# Altium integrated library IR Discrete SCR.IntLib: 273 symbols (part 3 of 3)
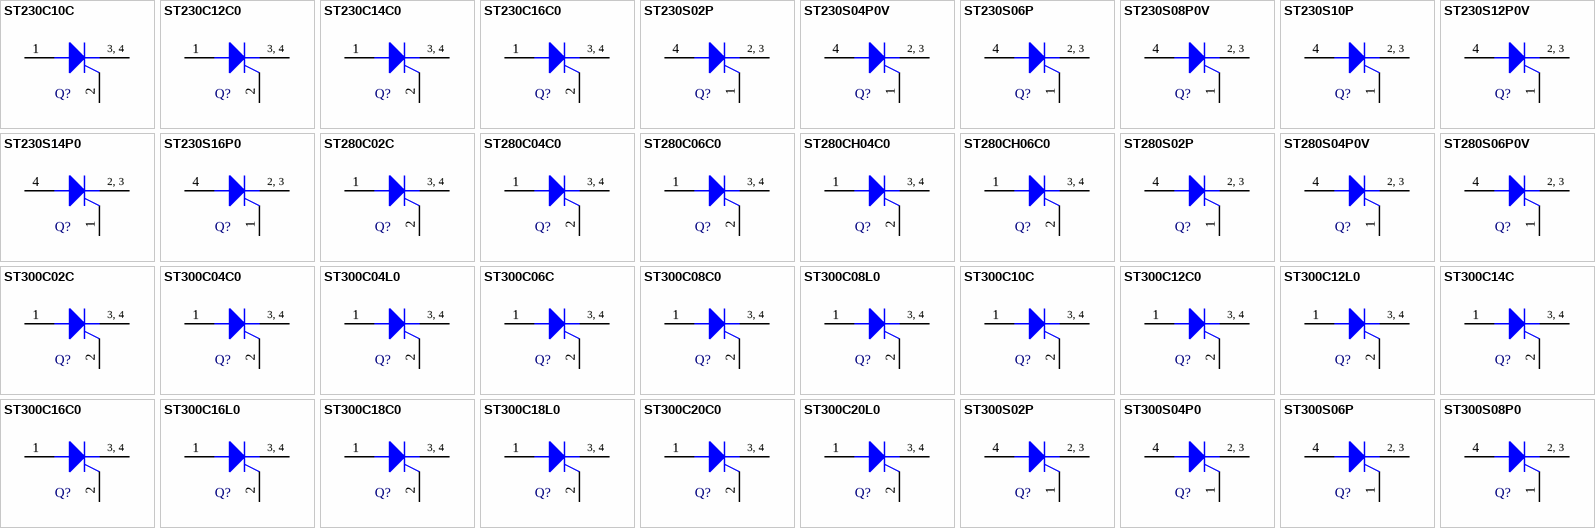
[diagram p8: symbols ST230C10C to ST300S08P0]

## ST300C12L0
designator Q?
Phase Control Thyristor; Note: No PCB Footprint Available; Published: 8-Jun-2000; LatestRevisionDate: 17-Jul-2002; LatestRevisionNote: Re-released for DXP Platform.; DatasheetVersion: Feb-1994; PackageReference: TO-200AC; Publisher: Altium Limited; ComponentLink1Description: Manufacturer Link; ComponentLink1URL: http://www.irf.com/; ComponentLink2Description: Datasheet; ComponentLink2URL: http://www.irf.com/product-info/datasheets/data/st300c-l.pdf
simulation model ST300C12L0 (SUBCKT)
pins: 1 A, 2 G, 3 K, 4 K
text: 3, 4

## ST300C14C
designator Q?
Phase Control Thyristor; Note: No PCB Footprint Available; Published: 8-Jun-2000; LatestRevisionDate: 17-Jul-2002; LatestRevisionNote: Re-released for DXP Platform.; DatasheetVersion: Dec-1989; PackageReference: TO-200AB; Publisher: Altium Limited; ComponentLink1Description: Manufacturer Link; ComponentLink1URL: http://www.irf.com/
simulation model ST300C14C (SUBCKT)
pins: 1 A, 2 G, 3 K, 4 K
text: 3, 4

## ST300C16C0
designator Q?
Phase Control Thyristor; Note: No PCB Footprint Available; Published: 8-Jun-2000; LatestRevisionDate: 17-Jul-2002; LatestRevisionNote: Re-released for DXP Platform.; DatasheetVersion: Feb-1994; PackageReference: TO-200AB; Publisher: Altium Limited; ComponentLink1Description: Manufacturer Link; ComponentLink1URL: http://www.irf.com/; ComponentLink2Description: Datasheet; ComponentLink2URL: http://www.irf.com/product-info/datasheets/data/st300c-c.pdf
simulation model ST300C16C0 (SUBCKT)
pins: 1 A, 2 G, 3 K, 4 K
text: 3, 4

## ST300C16L0
designator Q?
Phase Control Thyristor; Note: No PCB Footprint Available; Published: 8-Jun-2000; LatestRevisionDate: 17-Jul-2002; LatestRevisionNote: Re-released for DXP Platform.; DatasheetVersion: Feb-1994; PackageReference: TO-200AC; Publisher: Altium Limited; ComponentLink1Description: Manufacturer Link; ComponentLink1URL: http://www.irf.com/; ComponentLink2Description: Datasheet; ComponentLink2URL: http://www.irf.com/product-info/datasheets/data/st300c-l.pdf
simulation model ST300C16L0 (SUBCKT)
pins: 1 A, 2 G, 3 K, 4 K
text: 3, 4

## ST300C18C0
designator Q?
Phase Control Thyristor; Note: No PCB Footprint Available; Published: 8-Jun-2000; LatestRevisionDate: 17-Jul-2002; LatestRevisionNote: Re-released for DXP Platform.; DatasheetVersion: Feb-1994; PackageReference: TO-200AB; Publisher: Altium Limited; ComponentLink1Description: Manufacturer Link; ComponentLink1URL: http://www.irf.com/; ComponentLink2Description: Datasheet; ComponentLink2URL: http://www.irf.com/product-info/datasheets/data/st300c-c.pdf
simulation model ST300C18C0 (SUBCKT)
pins: 1 A, 2 G, 3 K, 4 K
text: 3, 4

## ST300C18L0
designator Q?
Phase Control Thyristor; Note: No PCB Footprint Available; Published: 8-Jun-2000; LatestRevisionDate: 17-Jul-2002; LatestRevisionNote: Re-released for DXP Platform.; DatasheetVersion: Feb-1994; PackageReference: TO-200AC; Publisher: Altium Limited; ComponentLink1Description: Manufacturer Link; ComponentLink1URL: http://www.irf.com/; ComponentLink2Description: Datasheet; ComponentLink2URL: http://www.irf.com/product-info/datasheets/data/st300c-l.pdf
simulation model ST300C18L0 (SUBCKT)
pins: 1 A, 2 G, 3 K, 4 K
text: 3, 4

## ST300C20C0
designator Q?
Phase Control Thyristor; Note: No PCB Footprint Available; Published: 8-Jun-2000; LatestRevisionDate: 17-Jul-2002; LatestRevisionNote: Re-released for DXP Platform.; DatasheetVersion: Feb-1994; PackageReference: TO-200AB; Publisher: Altium Limited; ComponentLink1Description: Manufacturer Link; ComponentLink1URL: http://www.irf.com/; ComponentLink2Description: Datasheet; ComponentLink2URL: http://www.irf.com/product-info/datasheets/data/st300c-c.pdf
simulation model ST300C20C0 (SUBCKT)
pins: 1 A, 2 G, 3 K, 4 K
text: 3, 4

## ST300C20L0
designator Q?
Phase Control Thyristor; Note: No PCB Footprint Available; Published: 8-Jun-2000; LatestRevisionDate: 17-Jul-2002; LatestRevisionNote: Re-released for DXP Platform.; DatasheetVersion: Feb-1994; PackageReference: TO-200AC; Publisher: Altium Limited; ComponentLink1Description: Manufacturer Link; ComponentLink1URL: http://www.irf.com/; ComponentLink2Description: Datasheet; ComponentLink2URL: http://www.irf.com/product-info/datasheets/data/st300c-l.pdf
simulation model ST300C20L0 (SUBCKT)
pins: 1 A, 2 G, 3 K, 4 K
text: 3, 4

## ST300S02P
designator Q?
Phase Control Thyristor; Note: No PCB Footprint Available; Published: 8-Jun-2000; LatestRevisionDate: 17-Jul-2002; LatestRevisionNote: Re-released for DXP Platform.; DatasheetVersion: Dec-1989; PackageReference: TO-209AE; Publisher: Altium Limited; ComponentLink1Description: Manufacturer Link; ComponentLink1URL: http://www.irf.com/
simulation model ST300S02P (SUBCKT)
pins: 1 G, 2 K, 3 K, 4 A
text: 2, 3

## ST300S04P0
designator Q?
Phase Control Thyristor; Note: No PCB Footprint Available; Published: 8-Jun-2000; LatestRevisionDate: 17-Jul-2002; LatestRevisionNote: Re-released for DXP Platform.; DatasheetVersion: Jan-1994; PackageReference: TO-209AE; Publisher: Altium Limited; ComponentLink1Description: Manufacturer Link; ComponentLink1URL: http://www.irf.com/; ComponentLink2Description: Datasheet; ComponentLink2URL: http://www.irf.com/product-info/datasheets/data/st300s.pdf
simulation model ST300S04P0 (SUBCKT)
pins: 1 G, 2 K, 3 K, 4 A
text: 2, 3

## ST300S06P
designator Q?
Phase Control Thyristor; Note: No PCB Footprint Available; Published: 8-Jun-2000; LatestRevisionDate: 17-Jul-2002; LatestRevisionNote: Re-released for DXP Platform.; DatasheetVersion: Dec-1989; PackageReference: TO-209AE; Publisher: Altium Limited; ComponentLink1Description: Manufacturer Link; ComponentLink1URL: http://www.irf.com/
simulation model ST300S06P (SUBCKT)
pins: 1 G, 2 K, 3 K, 4 A
text: 2, 3

## ST300S08P0
designator Q?
Phase Control Thyristor; Note: No PCB Footprint Available; Published: 8-Jun-2000; LatestRevisionDate: 17-Jul-2002; LatestRevisionNote: Re-released for DXP Platform.; DatasheetVersion: Jan-1994; PackageReference: TO-209AE; Publisher: Altium Limited; ComponentLink1Description: Manufacturer Link; ComponentLink1URL: http://www.irf.com/; ComponentLink2Description: Datasheet; ComponentLink2URL: http://www.irf.com/product-info/datasheets/data/st300s.pdf
simulation model ST300S08P0 (SUBCKT)
pins: 1 G, 2 K, 3 K, 4 A
text: 2, 3

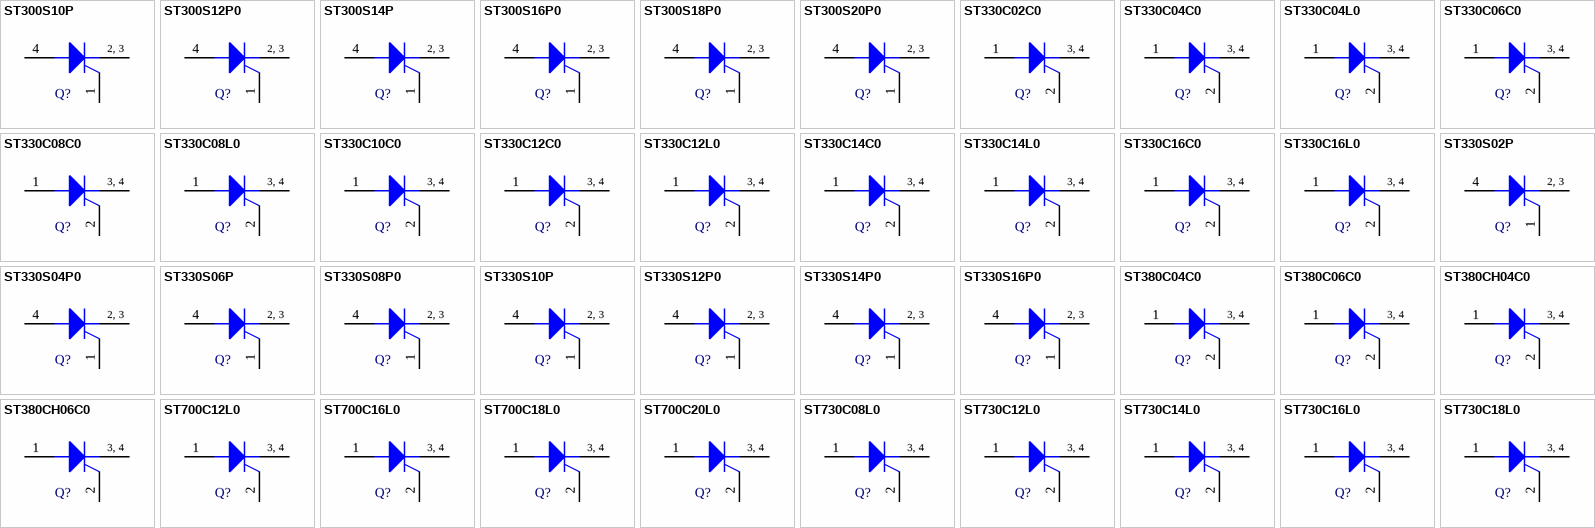
[diagram p5: symbols ST300S10P to ST730C18L0]

## ST300S10P
designator Q?
Phase Control Thyristor; Note: No PCB Footprint Available; Published: 8-Jun-2000; LatestRevisionDate: 17-Jul-2002; LatestRevisionNote: Re-released for DXP Platform.; DatasheetVersion: Dec-1989; PackageReference: TO-209AE; Publisher: Altium Limited; ComponentLink1Description: Manufacturer Link; ComponentLink1URL: http://www.irf.com/
simulation model ST300S10P (SUBCKT)
pins: 1 G, 2 K, 3 K, 4 A
text: 2, 3

## ST300S12P0
designator Q?
Phase Control Thyristor; Note: No PCB Footprint Available; Published: 8-Jun-2000; LatestRevisionDate: 17-Jul-2002; LatestRevisionNote: Re-released for DXP Platform.; DatasheetVersion: Jan-1994; PackageReference: TO-209AE; Publisher: Altium Limited; ComponentLink1Description: Manufacturer Link; ComponentLink1URL: http://www.irf.com/; ComponentLink2Description: Datasheet; ComponentLink2URL: http://www.irf.com/product-info/datasheets/data/st300s.pdf
simulation model ST300S12P0 (SUBCKT)
pins: 1 G, 2 K, 3 K, 4 A
text: 2, 3

## ST300S14P
designator Q?
Phase Control Thyristor; Note: No PCB Footprint Available; Published: 8-Jun-2000; LatestRevisionDate: 17-Jul-2002; LatestRevisionNote: Re-released for DXP Platform.; DatasheetVersion: Dec-1989; PackageReference: TO-209AE; Publisher: Altium Limited; ComponentLink1Description: Manufacturer Link; ComponentLink1URL: http://www.irf.com/
simulation model ST300S14P (SUBCKT)
pins: 1 G, 2 K, 3 K, 4 A
text: 2, 3

## ST300S16P0
designator Q?
Phase Control Thyristor; Note: No PCB Footprint Available; Published: 8-Jun-2000; LatestRevisionDate: 17-Jul-2002; LatestRevisionNote: Re-released for DXP Platform.; DatasheetVersion: Jan-1994; PackageReference: TO-209AE; Publisher: Altium Limited; ComponentLink1Description: Manufacturer Link; ComponentLink1URL: http://www.irf.com/; ComponentLink2Description: Datasheet; ComponentLink2URL: http://www.irf.com/product-info/datasheets/data/st300s.pdf
simulation model ST300S16P0 (SUBCKT)
pins: 1 G, 2 K, 3 K, 4 A
text: 2, 3

## ST300S18P0
designator Q?
Phase Control Thyristor; Note: No PCB Footprint Available; Published: 8-Jun-2000; LatestRevisionDate: 17-Jul-2002; LatestRevisionNote: Re-released for DXP Platform.; DatasheetVersion: Jan-1994; PackageReference: TO-209AE; Publisher: Altium Limited; ComponentLink1Description: Manufacturer Link; ComponentLink1URL: http://www.irf.com/; ComponentLink2Description: Datasheet; ComponentLink2URL: http://www.irf.com/product-info/datasheets/data/st300s.pdf
simulation model ST300S18P0 (SUBCKT)
pins: 1 G, 2 K, 3 K, 4 A
text: 2, 3

## ST300S20P0
designator Q?
Phase Control Thyristor; Note: No PCB Footprint Available; Published: 8-Jun-2000; LatestRevisionDate: 17-Jul-2002; LatestRevisionNote: Re-released for DXP Platform.; DatasheetVersion: Jan-1994; PackageReference: TO-209AE; Publisher: Altium Limited; ComponentLink1Description: Manufacturer Link; ComponentLink1URL: http://www.irf.com/; ComponentLink2Description: Datasheet; ComponentLink2URL: http://www.irf.com/product-info/datasheets/data/st300s.pdf
simulation model ST300S20P0 (SUBCKT)
pins: 1 G, 2 K, 3 K, 4 A
text: 2, 3

## ST330C02C0
designator Q?
Phase Control Thyristor; Note: No PCB Footprint Available; Published: 8-Jun-2000; LatestRevisionDate: 17-Jul-2002; LatestRevisionNote: Re-released for DXP Platform.; DatasheetVersion: Dec-1989; PackageReference: TO-200AB; Publisher: Altium Limited; ComponentLink1Description: Manufacturer Link; ComponentLink1URL: http://www.irf.com/
simulation model ST330C02C0 (SUBCKT)
pins: 1 A, 2 G, 3 K, 4 K
text: 3, 4

## ST330C04C0
designator Q?
Phase Control Thyristor; Note: No PCB Footprint Available; Published: 8-Jun-2000; LatestRevisionDate: 17-Jul-2002; LatestRevisionNote: Re-released for DXP Platform.; DatasheetVersion: Feb-1994; PackageReference: TO-200AB; Publisher: Altium Limited; ComponentLink1Description: Manufacturer Link; ComponentLink1URL: http://www.irf.com/; ComponentLink2Description: Datasheet; ComponentLink2URL: http://www.irf.com/product-info/datasheets/data/st330c-c.pdf
simulation model ST330C04C0 (SUBCKT)
pins: 1 A, 2 G, 3 K, 4 K
text: 3, 4

## ST330C04L0
designator Q?
Phase Control Thyristor; Note: No PCB Footprint Available; Published: 8-Jun-2000; LatestRevisionDate: 17-Jul-2002; LatestRevisionNote: Re-released for DXP Platform.; DatasheetVersion: Feb-1994; PackageReference: TO-200AC; Publisher: Altium Limited; ComponentLink1Description: Manufacturer Link; ComponentLink1URL: http://www.irf.com/; ComponentLink2Description: Datasheet; ComponentLink2URL: http://www.irf.com/product-info/datasheets/data/st330c-l.pdf
simulation model ST330C04L0 (SUBCKT)
pins: 1 A, 2 G, 3 K, 4 K
text: 3, 4

## ST330C06C0
designator Q?
Phase Control Thyristor; Note: No PCB Footprint Available; Published: 8-Jun-2000; LatestRevisionDate: 17-Jul-2002; LatestRevisionNote: Re-released for DXP Platform.; DatasheetVersion: Dec-1989; PackageReference: TO-200AB; Publisher: Altium Limited; ComponentLink1Description: Manufacturer Link; ComponentLink1URL: http://www.irf.com/
simulation model ST330C06C0 (SUBCKT)
pins: 1 A, 2 G, 3 K, 4 K
text: 3, 4

## ST330C08C0
designator Q?
Phase Control Thyristor; Note: No PCB Footprint Available; Published: 8-Jun-2000; LatestRevisionDate: 17-Jul-2002; LatestRevisionNote: Re-released for DXP Platform.; DatasheetVersion: Feb-1994; PackageReference: TO-200AB; Publisher: Altium Limited; ComponentLink1Description: Manufacturer Link; ComponentLink1URL: http://www.irf.com/; ComponentLink2Description: Datasheet; ComponentLink2URL: http://www.irf.com/product-info/datasheets/data/st330c-c.pdf
simulation model ST330C08C0 (SUBCKT)
pins: 1 A, 2 G, 3 K, 4 K
text: 3, 4

## ST330C08L0
designator Q?
Phase Control Thyristor; Note: No PCB Footprint Available; Published: 8-Jun-2000; LatestRevisionDate: 17-Jul-2002; LatestRevisionNote: Re-released for DXP Platform.; DatasheetVersion: Feb-1994; PackageReference: TO-200AC; Publisher: Altium Limited; ComponentLink1Description: Manufacturer Link; ComponentLink1URL: http://www.irf.com/; ComponentLink2Description: Datasheet; ComponentLink2URL: http://www.irf.com/product-info/datasheets/data/st330c-l.pdf
simulation model ST330C08L0 (SUBCKT)
pins: 1 A, 2 G, 3 K, 4 K
text: 3, 4

## ST330C10C0
designator Q?
Phase Control Thyristor; Note: No PCB Footprint Available; Published: 8-Jun-2000; LatestRevisionDate: 17-Jul-2002; LatestRevisionNote: Re-released for DXP Platform.; DatasheetVersion: Dec-1989; PackageReference: TO-200AB; Publisher: Altium Limited; ComponentLink1Description: Manufacturer Link; ComponentLink1URL: http://www.irf.com/
simulation model ST330C10C0 (SUBCKT)
pins: 1 A, 2 G, 3 K, 4 K
text: 3, 4

## ST330C12C0
designator Q?
Phase Control Thyristor; Note: No PCB Footprint Available; Published: 8-Jun-2000; LatestRevisionDate: 17-Jul-2002; LatestRevisionNote: Re-released for DXP Platform.; DatasheetVersion: Feb-1994; PackageReference: TO-200AB; Publisher: Altium Limited; ComponentLink1Description: Manufacturer Link; ComponentLink1URL: http://www.irf.com/; ComponentLink2Description: Datasheet; ComponentLink2URL: http://www.irf.com/product-info/datasheets/data/st330c-c.pdf
simulation model ST330C12C0 (SUBCKT)
pins: 1 A, 2 G, 3 K, 4 K
text: 3, 4

## ST330C12L0
designator Q?
Phase Control Thyristor; Note: No PCB Footprint Available; Published: 8-Jun-2000; LatestRevisionDate: 17-Jul-2002; LatestRevisionNote: Re-released for DXP Platform.; DatasheetVersion: Feb-1994; PackageReference: TO-200AC; Publisher: Altium Limited; ComponentLink1Description: Manufacturer Link; ComponentLink1URL: http://www.irf.com/; ComponentLink2Description: Datasheet; ComponentLink2URL: http://www.irf.com/product-info/datasheets/data/st330c-l.pdf
simulation model ST330C12L0 (SUBCKT)
pins: 1 A, 2 G, 3 K, 4 K
text: 3, 4

## ST330C14C0
designator Q?
Phase Control Thyristor; Note: No PCB Footprint Available; Published: 8-Jun-2000; LatestRevisionDate: 17-Jul-2002; LatestRevisionNote: Re-released for DXP Platform.; DatasheetVersion: Feb-1994; PackageReference: TO-200AB; Publisher: Altium Limited; ComponentLink1Description: Manufacturer Link; ComponentLink1URL: http://www.irf.com/; ComponentLink2Description: Datasheet; ComponentLink2URL: http://www.irf.com/product-info/datasheets/data/st330c-c.pdf
simulation model ST330C14C0 (SUBCKT)
pins: 1 A, 2 G, 3 K, 4 K
text: 3, 4

## ST330C14L0
designator Q?
Phase Control Thyristor; Note: No PCB Footprint Available; Published: 8-Jun-2000; LatestRevisionDate: 17-Jul-2002; LatestRevisionNote: Re-released for DXP Platform.; DatasheetVersion: Feb-1994; PackageReference: TO-200AC; Publisher: Altium Limited; ComponentLink1Description: Manufacturer Link; ComponentLink1URL: http://www.irf.com/; ComponentLink2Description: Datasheet; ComponentLink2URL: http://www.irf.com/product-info/datasheets/data/st330c-l.pdf
simulation model ST330C14L0 (SUBCKT)
pins: 1 A, 2 G, 3 K, 4 K
text: 3, 4

## ST330C16C0
designator Q?
Phase Control Thyristor; Note: No PCB Footprint Available; Published: 8-Jun-2000; LatestRevisionDate: 17-Jul-2002; LatestRevisionNote: Re-released for DXP Platform.; DatasheetVersion: Feb-1994; PackageReference: TO-200AB; Publisher: Altium Limited; ComponentLink1Description: Manufacturer Link; ComponentLink1URL: http://www.irf.com/; ComponentLink2Description: Datasheet; ComponentLink2URL: http://www.irf.com/product-info/datasheets/data/st330c-c.pdf
simulation model ST330C16C0 (SUBCKT)
pins: 1 A, 2 G, 3 K, 4 K
text: 3, 4

## ST330C16L0
designator Q?
Phase Control Thyristor; Note: No PCB Footprint Available; Published: 8-Jun-2000; LatestRevisionDate: 17-Jul-2002; LatestRevisionNote: Re-released for DXP Platform.; DatasheetVersion: Feb-1994; PackageReference: TO-200AC; Publisher: Altium Limited; ComponentLink1Description: Manufacturer Link; ComponentLink1URL: http://www.irf.com/; ComponentLink2Description: Datasheet; ComponentLink2URL: http://www.irf.com/product-info/datasheets/data/st330c-l.pdf
simulation model ST330C16L0 (SUBCKT)
pins: 1 A, 2 G, 3 K, 4 K
text: 3, 4

## ST330S02P
designator Q?
Phase Control Thyristor; Note: No PCB Footprint Available; Published: 8-Jun-2000; LatestRevisionDate: 17-Jul-2002; LatestRevisionNote: Re-released for DXP Platform.; DatasheetVersion: Dec-1989; PackageReference: TO-209AE; Publisher: Altium Limited; ComponentLink1Description: Manufacturer Link; ComponentLink1URL: http://www.irf.com/
simulation model ST330S02P (SUBCKT)
pins: 1 G, 2 K, 3 K, 4 A
text: 2, 3

## ST330S04P0
designator Q?
Phase Control Thyristor; Note: No PCB Footprint Available; Published: 8-Jun-2000; LatestRevisionDate: 17-Jul-2002; LatestRevisionNote: Re-released for DXP Platform.; DatasheetVersion: Jan-1994; PackageReference: TO-209AE; Publisher: Altium Limited; ComponentLink1Description: Manufacturer Link; ComponentLink1URL: http://www.irf.com/; ComponentLink2Description: Datasheet; ComponentLink2URL: http://www.irf.com/product-info/datasheets/data/st330s.pdf
simulation model ST330S04P0 (SUBCKT)
pins: 1 G, 2 K, 3 K, 4 A
text: 2, 3

## ST330S06P
designator Q?
Phase Control Thyristor; Note: No PCB Footprint Available; Published: 8-Jun-2000; LatestRevisionDate: 17-Jul-2002; LatestRevisionNote: Re-released for DXP Platform.; DatasheetVersion: Dec-1989; PackageReference: TO-209AE; Publisher: Altium Limited; ComponentLink1Description: Manufacturer Link; ComponentLink1URL: http://www.irf.com/
simulation model ST330S06P (SUBCKT)
pins: 1 G, 2 K, 3 K, 4 A
text: 2, 3

## ST330S08P0
designator Q?
Phase Control Thyristor; Note: No PCB Footprint Available; Published: 8-Jun-2000; LatestRevisionDate: 17-Jul-2002; LatestRevisionNote: Re-released for DXP Platform.; DatasheetVersion: Jan-1994; PackageReference: TO-209AE; Publisher: Altium Limited; ComponentLink1Description: Manufacturer Link; ComponentLink1URL: http://www.irf.com/; ComponentLink2Description: Datasheet; ComponentLink2URL: http://www.irf.com/product-info/datasheets/data/st330s.pdf
simulation model ST330S08P0 (SUBCKT)
pins: 1 G, 2 K, 3 K, 4 A
text: 2, 3

## ST330S10P
designator Q?
Phase Control Thyristor; Note: No PCB Footprint Available; Published: 8-Jun-2000; LatestRevisionDate: 17-Jul-2002; LatestRevisionNote: Re-released for DXP Platform.; DatasheetVersion: Dec-1989; PackageReference: TO-209AE; Publisher: Altium Limited; ComponentLink1Description: Manufacturer Link; ComponentLink1URL: http://www.irf.com/
simulation model ST330S10P (SUBCKT)
pins: 1 G, 2 K, 3 K, 4 A
text: 2, 3

## ST330S12P0
designator Q?
Phase Control Thyristor; Note: No PCB Footprint Available; Published: 8-Jun-2000; LatestRevisionDate: 17-Jul-2002; LatestRevisionNote: Re-released for DXP Platform.; DatasheetVersion: Jan-1994; PackageReference: TO-209AE; Publisher: Altium Limited; ComponentLink1Description: Manufacturer Link; ComponentLink1URL: http://www.irf.com/; ComponentLink2Description: Datasheet; ComponentLink2URL: http://www.irf.com/product-info/datasheets/data/st330s.pdf
simulation model ST330S12P0 (SUBCKT)
pins: 1 G, 2 K, 3 K, 4 A
text: 2, 3

## ST330S14P0
designator Q?
Phase Control Thyristor; Note: No PCB Footprint Available; Published: 8-Jun-2000; LatestRevisionDate: 17-Jul-2002; LatestRevisionNote: Re-released for DXP Platform.; DatasheetVersion: Jan-1994; PackageReference: TO-209AE; Publisher: Altium Limited; ComponentLink1Description: Manufacturer Link; ComponentLink1URL: http://www.irf.com/; ComponentLink2Description: Datasheet; ComponentLink2URL: http://www.irf.com/product-info/datasheets/data/st330s.pdf
simulation model ST330S14P0 (SUBCKT)
pins: 1 G, 2 K, 3 K, 4 A
text: 2, 3

## ST330S16P0
designator Q?
Phase Control Thyristor; Note: No PCB Footprint Available; Published: 8-Jun-2000; LatestRevisionDate: 17-Jul-2002; LatestRevisionNote: Re-released for DXP Platform.; DatasheetVersion: Jan-1994; PackageReference: TO-209AE; Publisher: Altium Limited; ComponentLink1Description: Manufacturer Link; ComponentLink1URL: http://www.irf.com/; ComponentLink2Description: Datasheet; ComponentLink2URL: http://www.irf.com/product-info/datasheets/data/st330s.pdf
simulation model ST330S16P0 (SUBCKT)
pins: 1 G, 2 K, 3 K, 4 A
text: 2, 3

## ST380C04C0
designator Q?
Phase Control Thyristor; Note: No PCB Footprint Available; Published: 8-Jun-2000; LatestRevisionDate: 17-Jul-2002; LatestRevisionNote: Re-released for DXP Platform.; DatasheetVersion: Feb-1994; PackageReference: TO-200AB; Publisher: Altium Limited; ComponentLink1Description: Manufacturer Link; ComponentLink1URL: http://www.irf.com/; ComponentLink2Description: Datasheet; ComponentLink2URL: http://www.irf.com/product-info/datasheets/data/st380c-c.pdf
simulation model ST380C04C0 (SUBCKT)
pins: 1 A, 2 G, 3 K, 4 K
text: 3, 4

## ST380C06C0
designator Q?
Phase Control Thyristor; Note: No PCB Footprint Available; Published: 8-Jun-2000; LatestRevisionDate: 17-Jul-2002; LatestRevisionNote: Re-released for DXP Platform.; DatasheetVersion: Feb-1994; PackageReference: TO-200AB; Publisher: Altium Limited; ComponentLink1Description: Manufacturer Link; ComponentLink1URL: http://www.irf.com/; ComponentLink2Description: Datasheet; ComponentLink2URL: http://www.irf.com/product-info/datasheets/data/st380c-c.pdf
simulation model ST380C06C0 (SUBCKT)
pins: 1 A, 2 G, 3 K, 4 K
text: 3, 4

## ST380CH04C0
designator Q?
Phase Control Thyristor; Note: No PCB Footprint Available; Published: 8-Jun-2000; LatestRevisionDate: 17-Jul-2002; LatestRevisionNote: Re-released for DXP Platform.; DatasheetVersion: Feb-1994; PackageReference: TO-200AB; Publisher: Altium Limited; ComponentLink1Description: Manufacturer Link; ComponentLink1URL: http://www.irf.com/; ComponentLink2Description: Datasheet; ComponentLink2URL: http://www.irf.com/product-info/datasheets/data/st380ch-c.pdf
simulation model ST380CH04C0 (SUBCKT)
pins: 1 A, 2 G, 3 K, 4 K
text: 3, 4

## ST380CH06C0
designator Q?
Phase Control Thyristor; Note: No PCB Footprint Available; Published: 8-Jun-2000; LatestRevisionDate: 17-Jul-2002; LatestRevisionNote: Re-released for DXP Platform.; DatasheetVersion: Feb-1994; PackageReference: TO-200AB; Publisher: Altium Limited; ComponentLink1Description: Manufacturer Link; ComponentLink1URL: http://www.irf.com/; ComponentLink2Description: Datasheet; ComponentLink2URL: http://www.irf.com/product-info/datasheets/data/st380ch-c.pdf
simulation model ST380CH06C0 (SUBCKT)
pins: 1 A, 2 G, 3 K, 4 K
text: 3, 4

## ST700C12L0
designator Q?
Phase Control Thyristor; Note: No PCB Footprint Available; Published: 8-Jun-2000; LatestRevisionDate: 17-Jul-2002; LatestRevisionNote: Re-released for DXP Platform.; DatasheetVersion: Dec-1997; PackageReference: TO-200AC; Publisher: Altium Limited; ComponentLink1Description: Manufacturer Link; ComponentLink1URL: http://www.irf.com/; ComponentLink2Description: Datasheet; ComponentLink2URL: http://www.irf.com/product-info/datasheets/data/st700c-l.pdf
simulation model ST700C12L0 (SUBCKT)
pins: 1 A, 2 G, 3 K, 4 K
text: 3, 4

## ST700C16L0
designator Q?
Phase Control Thyristor; Note: No PCB Footprint Available; Published: 8-Jun-2000; LatestRevisionDate: 17-Jul-2002; LatestRevisionNote: Re-released for DXP Platform.; DatasheetVersion: Dec-1997; PackageReference: TO-200AC; Publisher: Altium Limited; ComponentLink1Description: Manufacturer Link; ComponentLink1URL: http://www.irf.com/; ComponentLink2Description: Datasheet; ComponentLink2URL: http://www.irf.com/product-info/datasheets/data/st700c-l.pdf
simulation model ST700C16L0 (SUBCKT)
pins: 1 A, 2 G, 3 K, 4 K
text: 3, 4

## ST700C18L0
designator Q?
Phase Control Thyristor; Note: No PCB Footprint Available; Published: 8-Jun-2000; LatestRevisionDate: 17-Jul-2002; LatestRevisionNote: Re-released for DXP Platform.; DatasheetVersion: Dec-1997; PackageReference: TO-200AC; Publisher: Altium Limited; ComponentLink1Description: Manufacturer Link; ComponentLink1URL: http://www.irf.com/; ComponentLink2Description: Datasheet; ComponentLink2URL: http://www.irf.com/product-info/datasheets/data/st700c-l.pdf
simulation model ST700C18L0 (SUBCKT)
pins: 1 A, 2 G, 3 K, 4 K
text: 3, 4

## ST700C20L0
designator Q?
Phase Control Thyristor; Note: No PCB Footprint Available; Published: 8-Jun-2000; LatestRevisionDate: 17-Jul-2002; LatestRevisionNote: Re-released for DXP Platform.; DatasheetVersion: Dec-1997; PackageReference: TO-200AC; Publisher: Altium Limited; ComponentLink1Description: Manufacturer Link; ComponentLink1URL: http://www.irf.com/; ComponentLink2Description: Datasheet; ComponentLink2URL: http://www.irf.com/product-info/datasheets/data/st700c-l.pdf
simulation model ST700C20L0 (SUBCKT)
pins: 1 A, 2 G, 3 K, 4 K
text: 3, 4

## ST730C08L0
designator Q?
Phase Control Thyristor; Note: No PCB Footprint Available; Published: 8-Jun-2000; LatestRevisionDate: 17-Jul-2002; LatestRevisionNote: Re-released for DXP Platform.; DatasheetVersion: Feb-1994; PackageReference: TO-200AC; Publisher: Altium Limited; ComponentLink1Description: Manufacturer Link; ComponentLink1URL: http://www.irf.com/; ComponentLink2Description: Datasheet; ComponentLink2URL: http://www.irf.com/product-info/datasheets/data/st730c-l.pdf
simulation model ST730C08L0 (SUBCKT)
pins: 1 A, 2 G, 3 K, 4 K
text: 3, 4

## ST730C12L0
designator Q?
Phase Control Thyristor; Note: No PCB Footprint Available; Published: 8-Jun-2000; LatestRevisionDate: 17-Jul-2002; LatestRevisionNote: Re-released for DXP Platform.; DatasheetVersion: Feb-1994; PackageReference: TO-200AC; Publisher: Altium Limited; ComponentLink1Description: Manufacturer Link; ComponentLink1URL: http://www.irf.com/; ComponentLink2Description: Datasheet; ComponentLink2URL: http://www.irf.com/product-info/datasheets/data/st730c-l.pdf
simulation model ST730C12L0 (SUBCKT)
pins: 1 A, 2 G, 3 K, 4 K
text: 3, 4

## ST730C14L0
designator Q?
Phase Control Thyristor; Note: No PCB Footprint Available; Published: 8-Jun-2000; LatestRevisionDate: 17-Jul-2002; LatestRevisionNote: Re-released for DXP Platform.; DatasheetVersion: Feb-1994; PackageReference: TO-200AC; Publisher: Altium Limited; ComponentLink1Description: Manufacturer Link; ComponentLink1URL: http://www.irf.com/; ComponentLink2Description: Datasheet; ComponentLink2URL: http://www.irf.com/product-info/datasheets/data/st730c-l.pdf
simulation model ST730C14L0 (SUBCKT)
pins: 1 A, 2 G, 3 K, 4 K
text: 3, 4

## ST730C16L0
designator Q?
Phase Control Thyristor; Note: No PCB Footprint Available; Published: 8-Jun-2000; LatestRevisionDate: 17-Jul-2002; LatestRevisionNote: Re-released for DXP Platform.; DatasheetVersion: Feb-1994; PackageReference: TO-200AC; Publisher: Altium Limited; ComponentLink1Description: Manufacturer Link; ComponentLink1URL: http://www.irf.com/; ComponentLink2Description: Datasheet; ComponentLink2URL: http://www.irf.com/product-info/datasheets/data/st730c-l.pdf
simulation model ST730C16L0 (SUBCKT)
pins: 1 A, 2 G, 3 K, 4 K
text: 3, 4

## ST730C18L0
designator Q?
Phase Control Thyristor; Note: No PCB Footprint Available; Published: 8-Jun-2000; LatestRevisionDate: 17-Jul-2002; LatestRevisionNote: Re-released for DXP Platform.; DatasheetVersion: Feb-1994; PackageReference: TO-200AC; Publisher: Altium Limited; ComponentLink1Description: Manufacturer Link; ComponentLink1URL: http://www.irf.com/; ComponentLink2Description: Datasheet; ComponentLink2URL: http://www.irf.com/product-info/datasheets/data/st730c-l.pdf
simulation model ST730C18L0 (SUBCKT)
pins: 1 A, 2 G, 3 K, 4 K
text: 3, 4

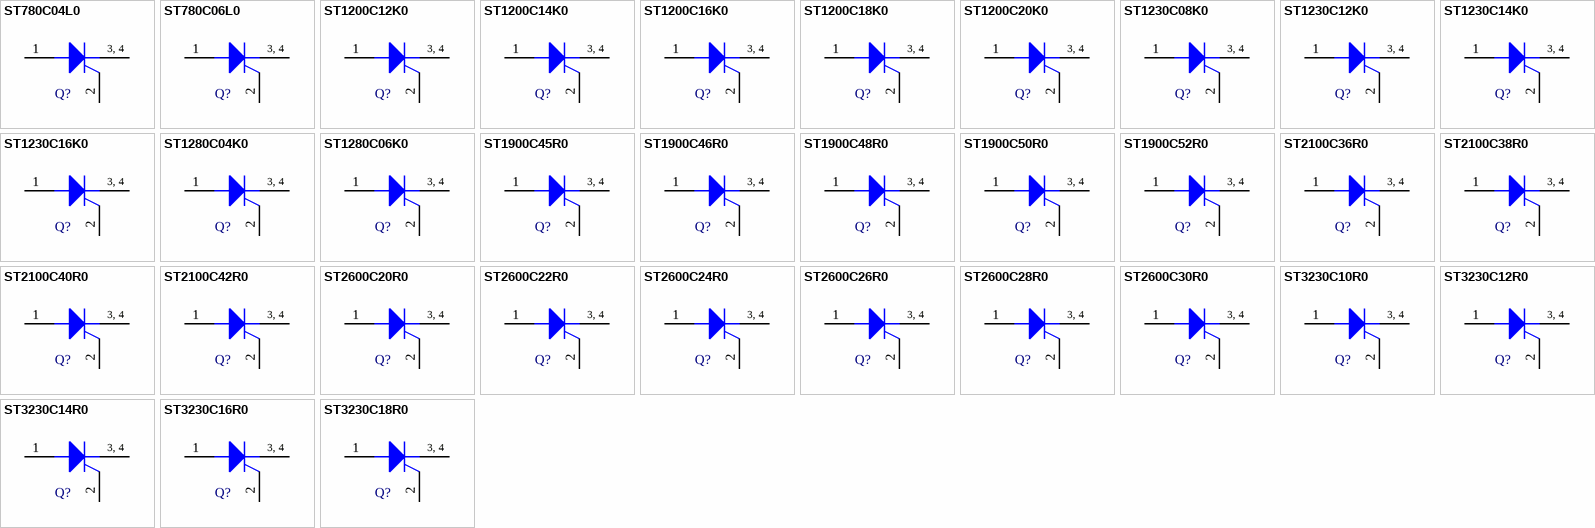
[diagram p6: symbols ST780C04L0 to ST3230C18R0]

## ST780C04L0
designator Q?
Phase Control Thyristor; Note: No PCB Footprint Available; Published: 8-Jun-2000; LatestRevisionDate: 17-Jul-2002; LatestRevisionNote: Re-released for DXP Platform.; DatasheetVersion: Feb-1994; PackageReference: TO-200AC; Publisher: Altium Limited; ComponentLink1Description: Manufacturer Link; ComponentLink1URL: http://www.irf.com/; ComponentLink2Description: Datasheet; ComponentLink2URL: http://www.irf.com/product-info/datasheets/data/st780c-l.pdf
simulation model ST780C04L0 (SUBCKT)
pins: 1 A, 2 G, 3 K, 4 K
text: 3, 4

## ST780C06L0
designator Q?
Phase Control Thyristor; Note: No PCB Footprint Available; Published: 8-Jun-2000; LatestRevisionDate: 17-Jul-2002; LatestRevisionNote: Re-released for DXP Platform.; DatasheetVersion: Feb-1994; PackageReference: TO-200AC; Publisher: Altium Limited; ComponentLink1Description: Manufacturer Link; ComponentLink1URL: http://www.irf.com/; ComponentLink2Description: Datasheet; ComponentLink2URL: http://www.irf.com/product-info/datasheets/data/st780c-l.pdf
simulation model ST780C06L0 (SUBCKT)
pins: 1 A, 2 G, 3 K, 4 K
text: 3, 4

## ST1200C12K0
designator Q?
Phase Control Thyristor; Note: No PCB Footprint Available; Published: 8-Jun-2000; LatestRevisionDate: 17-Jul-2002; LatestRevisionNote: Re-released for DXP Platform.; DatasheetVersion: Feb-1994; PackageReference: A-24; Publisher: Altium Limited; ComponentLink1Description: Manufacturer Link; ComponentLink1URL: http://www.irf.com/; ComponentLink2Description: Datasheet; ComponentLink2URL: http://www.irf.com/product-info/datasheets/data/st1200c-k.pdf
simulation model ST1200C12K0 (SUBCKT)
pins: 1 A, 2 G, 3 K, 4 K
text: 3, 4

## ST1200C14K0
designator Q?
Phase Control Thyristor; Note: No PCB Footprint Available; Published: 8-Jun-2000; LatestRevisionDate: 17-Jul-2002; LatestRevisionNote: Re-released for DXP Platform.; DatasheetVersion: Feb-1994; PackageReference: A-24; Publisher: Altium Limited; ComponentLink1Description: Manufacturer Link; ComponentLink1URL: http://www.irf.com/; ComponentLink2Description: Datasheet; ComponentLink2URL: http://www.irf.com/product-info/datasheets/data/st1200c-k.pdf
simulation model ST1200C14K0 (SUBCKT)
pins: 1 A, 2 G, 3 K, 4 K
text: 3, 4

## ST1200C16K0
designator Q?
Phase Control Thyristor; Note: No PCB Footprint Available; Published: 8-Jun-2000; LatestRevisionDate: 17-Jul-2002; LatestRevisionNote: Re-released for DXP Platform.; DatasheetVersion: Feb-1994; PackageReference: A-24; Publisher: Altium Limited; ComponentLink1Description: Manufacturer Link; ComponentLink1URL: http://www.irf.com/; ComponentLink2Description: Datasheet; ComponentLink2URL: http://www.irf.com/product-info/datasheets/data/st1200c-k.pdf
simulation model ST1200C16K0 (SUBCKT)
pins: 1 A, 2 G, 3 K, 4 K
text: 3, 4

## ST1200C18K0
designator Q?
Phase Control Thyristor; Note: No PCB Footprint Available; Published: 8-Jun-2000; LatestRevisionDate: 17-Jul-2002; LatestRevisionNote: Re-released for DXP Platform.; DatasheetVersion: Feb-1994; PackageReference: A-24; Publisher: Altium Limited; ComponentLink1Description: Manufacturer Link; ComponentLink1URL: http://www.irf.com/; ComponentLink2Description: Datasheet; ComponentLink2URL: http://www.irf.com/product-info/datasheets/data/st1200c-k.pdf
simulation model ST1200C18K0 (SUBCKT)
pins: 1 A, 2 G, 3 K, 4 K
text: 3, 4

## ST1200C20K0
designator Q?
Phase Control Thyristor; Note: No PCB Footprint Available; Published: 8-Jun-2000; LatestRevisionDate: 17-Jul-2002; LatestRevisionNote: Re-released for DXP Platform.; DatasheetVersion: Feb-1994; PackageReference: A-24; Publisher: Altium Limited; ComponentLink1Description: Manufacturer Link; ComponentLink1URL: http://www.irf.com/; ComponentLink2Description: Datasheet; ComponentLink2URL: http://www.irf.com/product-info/datasheets/data/st1200c-k.pdf
simulation model ST1200C20K0 (SUBCKT)
pins: 1 A, 2 G, 3 K, 4 K
text: 3, 4

## ST1230C08K0
designator Q?
Phase Control Thyristor; Note: No PCB Footprint Available; Published: 8-Jun-2000; LatestRevisionDate: 17-Jul-2002; LatestRevisionNote: Re-released for DXP Platform.; DatasheetVersion: Feb-1994; PackageReference: A-24; Publisher: Altium Limited; ComponentLink1Description: Manufacturer Link; ComponentLink1URL: http://www.irf.com/; ComponentLink2Description: Datasheet; ComponentLink2URL: http://www.irf.com/product-info/datasheets/data/st1230c-k.pdf
simulation model ST1230C08K0 (SUBCKT)
pins: 1 A, 2 G, 3 K, 4 K
text: 3, 4

## ST1230C12K0
designator Q?
Phase Control Thyristor; Note: No PCB Footprint Available; Published: 8-Jun-2000; LatestRevisionDate: 17-Jul-2002; LatestRevisionNote: Re-released for DXP Platform.; DatasheetVersion: Feb-1994; PackageReference: A-24; Publisher: Altium Limited; ComponentLink1Description: Manufacturer Link; ComponentLink1URL: http://www.irf.com/; ComponentLink2Description: Datasheet; ComponentLink2URL: http://www.irf.com/product-info/datasheets/data/st1230c-k.pdf
simulation model ST1230C12K0 (SUBCKT)
pins: 1 A, 2 G, 3 K, 4 K
text: 3, 4

## ST1230C14K0
designator Q?
Phase Control Thyristor; Note: No PCB Footprint Available; Published: 8-Jun-2000; LatestRevisionDate: 17-Jul-2002; LatestRevisionNote: Re-released for DXP Platform.; DatasheetVersion: Feb-1994; PackageReference: A-24; Publisher: Altium Limited; ComponentLink1Description: Manufacturer Link; ComponentLink1URL: http://www.irf.com/; ComponentLink2Description: Datasheet; ComponentLink2URL: http://www.irf.com/product-info/datasheets/data/st1230c-k.pdf
simulation model ST1230C14K0 (SUBCKT)
pins: 1 A, 2 G, 3 K, 4 K
text: 3, 4

## ST1230C16K0
designator Q?
Phase Control Thyristor; Note: No PCB Footprint Available; Published: 8-Jun-2000; LatestRevisionDate: 17-Jul-2002; LatestRevisionNote: Re-released for DXP Platform.; DatasheetVersion: Feb-1994; PackageReference: A-24; Publisher: Altium Limited; ComponentLink1Description: Manufacturer Link; ComponentLink1URL: http://www.irf.com/; ComponentLink2Description: Datasheet; ComponentLink2URL: http://www.irf.com/product-info/datasheets/data/st1230c-k.pdf
simulation model ST1230C16K0 (SUBCKT)
pins: 1 A, 2 G, 3 K, 4 K
text: 3, 4

## ST1280C04K0
designator Q?
Phase Control Thyristor; Note: No PCB Footprint Available; Published: 8-Jun-2000; LatestRevisionDate: 17-Jul-2002; LatestRevisionNote: Re-released for DXP Platform.; DatasheetVersion: Feb-1994; PackageReference: A-24; Publisher: Altium Limited; ComponentLink1Description: Manufacturer Link; ComponentLink1URL: http://www.irf.com/; ComponentLink2Description: Datasheet; ComponentLink2URL: http://www.irf.com/product-info/datasheets/data/st1280c-k.pdf
simulation model ST1280C04K0 (SUBCKT)
pins: 1 A, 2 G, 3 K, 4 K
text: 3, 4

## ST1280C06K0
designator Q?
Phase Control Thyristor; Note: No PCB Footprint Available; Published: 8-Jun-2000; LatestRevisionDate: 17-Jul-2002; LatestRevisionNote: Re-released for DXP Platform.; DatasheetVersion: Feb-1994; PackageReference: A-24; Publisher: Altium Limited; ComponentLink1Description: Manufacturer Link; ComponentLink1URL: http://www.irf.com/; ComponentLink2Description: Datasheet; ComponentLink2URL: http://www.irf.com/product-info/datasheets/data/st1280c-k.pdf
simulation model ST1280C06K0 (SUBCKT)
pins: 1 A, 2 G, 3 K, 4 K
text: 3, 4

## ST1900C45R0
designator Q?
Phase Control Thyristor; Note: No PCB Footprint Available; Published: 8-Jun-2000; LatestRevisionDate: 17-Jul-2002; LatestRevisionNote: Re-released for DXP Platform.; DatasheetVersion: Apr-1994; PackageReference: R-PUK; Publisher: Altium Limited; ComponentLink1Description: Manufacturer Link; ComponentLink1URL: http://www.irf.com/; ComponentLink2Description: Datasheet; ComponentLink2URL: http://www.irf.com/product-info/datasheets/data/st1900c-r.pdf
simulation model ST1900C45R0 (SUBCKT)
pins: 1 A, 2 G, 3 K, 4 K
text: 3, 4

## ST1900C46R0
designator Q?
Phase Control Thyristor; Note: No PCB Footprint Available; Published: 8-Jun-2000; LatestRevisionDate: 17-Jul-2002; LatestRevisionNote: Re-released for DXP Platform.; DatasheetVersion: Apr-1994; PackageReference: R-PUK; Publisher: Altium Limited; ComponentLink1Description: Manufacturer Link; ComponentLink1URL: http://www.irf.com/; ComponentLink2Description: Datasheet; ComponentLink2URL: http://www.irf.com/product-info/datasheets/data/st1900c-r.pdf
simulation model ST1900C46R0 (SUBCKT)
pins: 1 A, 2 G, 3 K, 4 K
text: 3, 4

## ST1900C48R0
designator Q?
Phase Control Thyristor; Note: No PCB Footprint Available; Published: 8-Jun-2000; LatestRevisionDate: 17-Jul-2002; LatestRevisionNote: Re-released for DXP Platform.; DatasheetVersion: Apr-1994; PackageReference: R-PUK; Publisher: Altium Limited; ComponentLink1Description: Manufacturer Link; ComponentLink1URL: http://www.irf.com/; ComponentLink2Description: Datasheet; ComponentLink2URL: http://www.irf.com/product-info/datasheets/data/st1900c-r.pdf
simulation model ST1900C48R0 (SUBCKT)
pins: 1 A, 2 G, 3 K, 4 K
text: 3, 4

## ST1900C50R0
designator Q?
Phase Control Thyristor; Note: No PCB Footprint Available; Published: 8-Jun-2000; LatestRevisionDate: 17-Jul-2002; LatestRevisionNote: Re-released for DXP Platform.; DatasheetVersion: Apr-1994; PackageReference: R-PUK; Publisher: Altium Limited; ComponentLink1Description: Manufacturer Link; ComponentLink1URL: http://www.irf.com/; ComponentLink2Description: Datasheet; ComponentLink2URL: http://www.irf.com/product-info/datasheets/data/st1900c-r.pdf
simulation model ST1900C50R0 (SUBCKT)
pins: 1 A, 2 G, 3 K, 4 K
text: 3, 4

## ST1900C52R0
designator Q?
Phase Control Thyristor; Note: No PCB Footprint Available; Published: 8-Jun-2000; LatestRevisionDate: 17-Jul-2002; LatestRevisionNote: Re-released for DXP Platform.; DatasheetVersion: Apr-1994; PackageReference: R-PUK; Publisher: Altium Limited; ComponentLink1Description: Manufacturer Link; ComponentLink1URL: http://www.irf.com/; ComponentLink2Description: Datasheet; ComponentLink2URL: http://www.irf.com/product-info/datasheets/data/st1900c-r.pdf
simulation model ST1900C52R0 (SUBCKT)
pins: 1 A, 2 G, 3 K, 4 K
text: 3, 4

## ST2100C36R0
designator Q?
Phase Control Thyristor; Note: No PCB Footprint Available; Published: 8-Jun-2000; LatestRevisionDate: 17-Jul-2002; LatestRevisionNote: Re-released for DXP Platform.; DatasheetVersion: Apr-1994; PackageReference: R-PUK; Publisher: Altium Limited; ComponentLink1Description: Manufacturer Link; ComponentLink1URL: http://www.irf.com/; ComponentLink2Description: Datasheet; ComponentLink2URL: http://www.irf.com/product-info/datasheets/data/st2100c-r.pdf
simulation model ST2100C36R0 (SUBCKT)
pins: 1 A, 2 G, 3 K, 4 K
text: 3, 4

## ST2100C38R0
designator Q?
Phase Control Thyristor; Note: No PCB Footprint Available; Published: 8-Jun-2000; LatestRevisionDate: 17-Jul-2002; LatestRevisionNote: Re-released for DXP Platform.; DatasheetVersion: Apr-1994; PackageReference: R-PUK; Publisher: Altium Limited; ComponentLink1Description: Manufacturer Link; ComponentLink1URL: http://www.irf.com/; ComponentLink2Description: Datasheet; ComponentLink2URL: http://www.irf.com/product-info/datasheets/data/st2100c-r.pdf
simulation model ST2100C38R0 (SUBCKT)
pins: 1 A, 2 G, 3 K, 4 K
text: 3, 4

## ST2100C40R0
designator Q?
Phase Control Thyristor; Note: No PCB Footprint Available; Published: 8-Jun-2000; LatestRevisionDate: 17-Jul-2002; LatestRevisionNote: Re-released for DXP Platform.; DatasheetVersion: Apr-1994; PackageReference: R-PUK; Publisher: Altium Limited; ComponentLink1Description: Manufacturer Link; ComponentLink1URL: http://www.irf.com/; ComponentLink2Description: Datasheet; ComponentLink2URL: http://www.irf.com/product-info/datasheets/data/st2100c-r.pdf
simulation model ST2100C40R0 (SUBCKT)
pins: 1 A, 2 G, 3 K, 4 K
text: 3, 4

## ST2100C42R0
designator Q?
Phase Control Thyristor; Note: No PCB Footprint Available; Published: 8-Jun-2000; LatestRevisionDate: 17-Jul-2002; LatestRevisionNote: Re-released for DXP Platform.; DatasheetVersion: Apr-1994; PackageReference: R-PUK; Publisher: Altium Limited; ComponentLink1Description: Manufacturer Link; ComponentLink1URL: http://www.irf.com/; ComponentLink2Description: Datasheet; ComponentLink2URL: http://www.irf.com/product-info/datasheets/data/st2100c-r.pdf
simulation model ST2100C42R0 (SUBCKT)
pins: 1 A, 2 G, 3 K, 4 K
text: 3, 4

## ST2600C20R0
designator Q?
Phase Control Thyristor; Note: No PCB Footprint Available; Published: 8-Jun-2000; LatestRevisionDate: 17-Jul-2002; LatestRevisionNote: Re-released for DXP Platform.; DatasheetVersion: Apr-1994; PackageReference: R-PUK; Publisher: Altium Limited; ComponentLink1Description: Manufacturer Link; ComponentLink1URL: http://www.irf.com/; ComponentLink2Description: Datasheet; ComponentLink2URL: http://www.irf.com/product-info/datasheets/data/st2600c-r.pdf
simulation model ST2600C20R0 (SUBCKT)
pins: 1 A, 2 G, 3 K, 4 K
text: 3, 4

## ST2600C22R0
designator Q?
Phase Control Thyristor; Note: No PCB Footprint Available; Published: 8-Jun-2000; LatestRevisionDate: 17-Jul-2002; LatestRevisionNote: Re-released for DXP Platform.; DatasheetVersion: Apr-1994; PackageReference: R-PUK; Publisher: Altium Limited; ComponentLink1Description: Manufacturer Link; ComponentLink1URL: http://www.irf.com/; ComponentLink2Description: Datasheet; ComponentLink2URL: http://www.irf.com/product-info/datasheets/data/st2600c-r.pdf
simulation model ST2600C22R0 (SUBCKT)
pins: 1 A, 2 G, 3 K, 4 K
text: 3, 4

## ST2600C24R0
designator Q?
Phase Control Thyristor; Note: No PCB Footprint Available; Published: 8-Jun-2000; LatestRevisionDate: 17-Jul-2002; LatestRevisionNote: Re-released for DXP Platform.; DatasheetVersion: Apr-1994; PackageReference: R-PUK; Publisher: Altium Limited; ComponentLink1Description: Manufacturer Link; ComponentLink1URL: http://www.irf.com/; ComponentLink2Description: Datasheet; ComponentLink2URL: http://www.irf.com/product-info/datasheets/data/st2600c-r.pdf
simulation model ST2600C24R0 (SUBCKT)
pins: 1 A, 2 G, 3 K, 4 K
text: 3, 4

## ST2600C26R0
designator Q?
Phase Control Thyristor; Note: No PCB Footprint Available; Published: 8-Jun-2000; LatestRevisionDate: 17-Jul-2002; LatestRevisionNote: Re-released for DXP Platform.; DatasheetVersion: Apr-1994; PackageReference: R-PUK; Publisher: Altium Limited; ComponentLink1Description: Manufacturer Link; ComponentLink1URL: http://www.irf.com/; ComponentLink2Description: Datasheet; ComponentLink2URL: http://www.irf.com/product-info/datasheets/data/st2600c-r.pdf
simulation model ST2600C26R0 (SUBCKT)
pins: 1 A, 2 G, 3 K, 4 K
text: 3, 4

## ST2600C28R0
designator Q?
Phase Control Thyristor; Note: No PCB Footprint Available; Published: 8-Jun-2000; LatestRevisionDate: 17-Jul-2002; LatestRevisionNote: Re-released for DXP Platform.; DatasheetVersion: Apr-1994; PackageReference: R-PUK; Publisher: Altium Limited; ComponentLink1Description: Manufacturer Link; ComponentLink1URL: http://www.irf.com/; ComponentLink2Description: Datasheet; ComponentLink2URL: http://www.irf.com/product-info/datasheets/data/st2600c-r.pdf
simulation model ST2600C28R0 (SUBCKT)
pins: 1 A, 2 G, 3 K, 4 K
text: 3, 4

## ST2600C30R0
designator Q?
Phase Control Thyristor; Note: No PCB Footprint Available; Published: 8-Jun-2000; LatestRevisionDate: 17-Jul-2002; LatestRevisionNote: Re-released for DXP Platform.; DatasheetVersion: Apr-1994; PackageReference: R-PUK; Publisher: Altium Limited; ComponentLink1Description: Manufacturer Link; ComponentLink1URL: http://www.irf.com/; ComponentLink2Description: Datasheet; ComponentLink2URL: http://www.irf.com/product-info/datasheets/data/st2600c-r.pdf
simulation model ST2600C30R0 (SUBCKT)
pins: 1 A, 2 G, 3 K, 4 K
text: 3, 4

## ST3230C10R0
designator Q?
Phase Control Thyristor; Note: No PCB Footprint Available; Published: 8-Jun-2000; LatestRevisionDate: 17-Jul-2002; LatestRevisionNote: Re-released for DXP Platform.; DatasheetVersion: Apr-1994; PackageReference: R-PUK; Publisher: Altium Limited; ComponentLink1Description: Manufacturer Link; ComponentLink1URL: http://www.irf.com/; ComponentLink2Description: Datasheet; ComponentLink2URL: http://www.irf.com/product-info/datasheets/data/st3230c-r.pdf
simulation model ST3230C10R0 (SUBCKT)
pins: 1 A, 2 G, 3 K, 4 K
text: 3, 4

## ST3230C12R0
designator Q?
Phase Control Thyristor; Note: No PCB Footprint Available; Published: 8-Jun-2000; LatestRevisionDate: 17-Jul-2002; LatestRevisionNote: Re-released for DXP Platform.; DatasheetVersion: Apr-1994; PackageReference: R-PUK; Publisher: Altium Limited; ComponentLink1Description: Manufacturer Link; ComponentLink1URL: http://www.irf.com/; ComponentLink2Description: Datasheet; ComponentLink2URL: http://www.irf.com/product-info/datasheets/data/st3230c-r.pdf
simulation model ST3230C12R0 (SUBCKT)
pins: 1 A, 2 G, 3 K, 4 K
text: 3, 4

## ST3230C14R0
designator Q?
Phase Control Thyristor; Note: No PCB Footprint Available; Published: 8-Jun-2000; LatestRevisionDate: 17-Jul-2002; LatestRevisionNote: Re-released for DXP Platform.; DatasheetVersion: Apr-1994; PackageReference: R-PUK; Publisher: Altium Limited; ComponentLink1Description: Manufacturer Link; ComponentLink1URL: http://www.irf.com/; ComponentLink2Description: Datasheet; ComponentLink2URL: http://www.irf.com/product-info/datasheets/data/st3230c-r.pdf
simulation model ST3230C14R0 (SUBCKT)
pins: 1 A, 2 G, 3 K, 4 K
text: 3, 4

## ST3230C16R0
designator Q?
Phase Control Thyristor; Note: No PCB Footprint Available; Published: 8-Jun-2000; LatestRevisionDate: 17-Jul-2002; LatestRevisionNote: Re-released for DXP Platform.; DatasheetVersion: Apr-1994; PackageReference: R-PUK; Publisher: Altium Limited; ComponentLink1Description: Manufacturer Link; ComponentLink1URL: http://www.irf.com/; ComponentLink2Description: Datasheet; ComponentLink2URL: http://www.irf.com/product-info/datasheets/data/st3230c-r.pdf
simulation model ST3230C16R0 (SUBCKT)
pins: 1 A, 2 G, 3 K, 4 K
text: 3, 4

## ST3230C18R0
designator Q?
Phase Control Thyristor; Note: No PCB Footprint Available; Published: 8-Jun-2000; LatestRevisionDate: 17-Jul-2002; LatestRevisionNote: Re-released for DXP Platform.; DatasheetVersion: Apr-1994; PackageReference: R-PUK; Publisher: Altium Limited; ComponentLink1Description: Manufacturer Link; ComponentLink1URL: http://www.irf.com/; ComponentLink2Description: Datasheet; ComponentLink2URL: http://www.irf.com/product-info/datasheets/data/st3230c-r.pdf
simulation model ST3230C18R0 (SUBCKT)
pins: 1 A, 2 G, 3 K, 4 K
text: 3, 4